# EAGLE library part LQ020B8UB02 (library SHARP-LCD)
LCD Display 2.0 inch 132 x 162 Dots
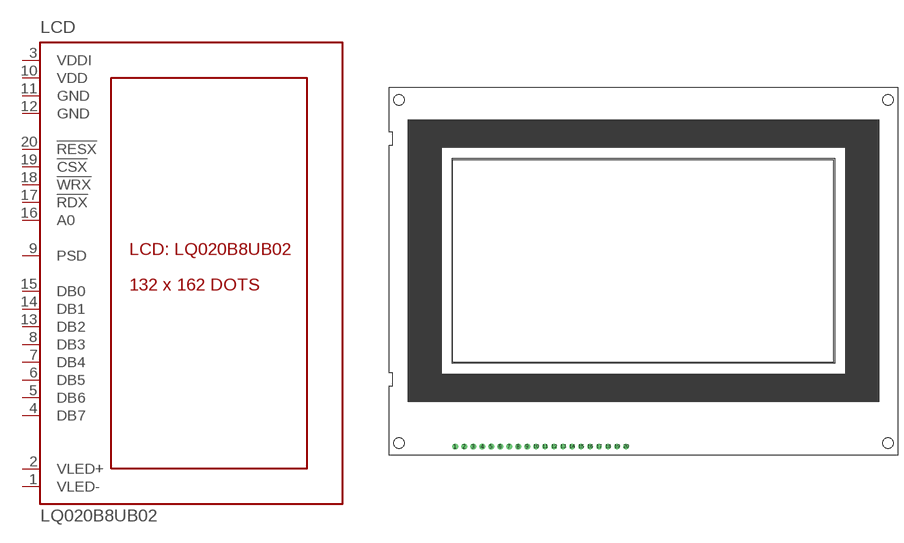
[diagram p0: symbol with the pads of LQ020B8UB02; footprint LQ020B8UB02]

Designator prefix LCD

## LQ020B8UB02  [LQ020B8UB02]
1  VLED-  in
2  VLED+  in
3  VDDI  in
4  DB7
5  DB6
6  DB5
7  DB4
8  DB3
9  PSD
10  VDD  in
11  GND  in
12  GND  in
13  DB2
14  DB1
15  DB0
16  A0  in
17  !RDX
18  !WRX  in
19  !CSX  in
20  !RESX  in

## Footprint LQ020B8UB02 (pad centres in mm)
LCD Display 240 x 128 Dots Source: VARITRONIX LIMITED .. LCD_f1187192714.pdf
drill 1 pad 1.676 round: 1 15.8,-1; 2 18.34,-1; 3 20.88,-1; 4 23.42,-1; 5 25.96,-1; 6 28.5,-1; 7 31.04,-1; 8 33.58,-1; 9 36.12,-1; 10 38.66,-1; 11 41.2,-1; 12 43.74,-1; 13 46.28,-1; 14 48.82,-1; 15 51.36,-1; 16 53.9,-1; 17 56.44,-1; 18 58.98,-1; 19 61.52,-1; 20 64.06,-1
hole 3 at 0,0
hole 3 at 138,0
hole 3 at 0,97
hole 3 at 138,97